# Altium footprint library InterfaceConn.PcbLib: 4 footprints
Each footprint in its own frame and in the unit in brackets; x right, y up, seen from the top. Pads: shape width x height; smd on the part's side, far side on the other; paste and mask are expansions set on the pad; w line width, h text height; cw(c..) or ccw(c..) is an arc to the next point about the centre after c.
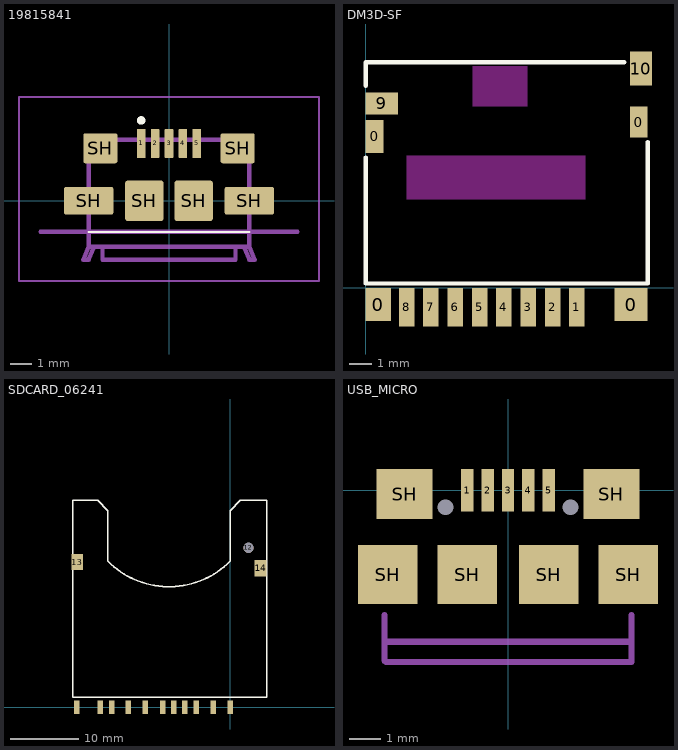
[diagram p0: the footprints below, top view; thin cyan lines are the x and y axes]

## 19815841 [mm] "microUSB TE Connectivity"
pads (11):
  rrect15% 0.4x1.35 smd: 1(-1.3,2.675) 2(-0.65,2.675) 3(0,2.675) 4(0.65,2.675) 5(1.3,2.675)
  rrect15% 2.3x1.3 smd: SH(-3.75,0) SH(3.75,0)
  rrect15% 1.6x1.4 smd: SH(-3.2,2.45) SH(3.2,2.45)
  rrect15% 1.8x1.9 smd: SH(-1.15,0) SH(1.15,0)
Top Overlay:
  lines w0.1: -3.75,-1.45 3.75,-1.45
  lines w0.2: -1.4,3.75 cw(c-1.3,3.75) -1.2,3.75 cw(c-1.3,3.75) -1.4,3.75
Mechanical 13:
  lines w0.2: -6,-1.45 6,-1.45 ; -3.5,-2.15 -3.75,-2.75 -4,-2.75 -3.75,-2.15 ; -3.1,-2.15 -3.1,-2.75 3.1,-2.75 3.1,-2.15 ; 3.5,-2.15 3.75,-2.75 4,-2.75 3.75,-2.15 ; -3.75,-2.15 -3.75,2.85 3.75,2.85 3.75,-2.15 ; -3.75,-2.15 3.75,-2.15
Mechanical 15:
  lines w0.1: -7,-3.75 -7,4.85 7,4.85 7,-3.75 -7,-3.75
3D body "1981584-1.stp": height 2.74, standoff -0.32, extent -4.4,-2.71 4.4,2.89

## DM3D-SF [mm] "microSD Card Connector"
pads (14):
  rect 0.8x1.5 smd: 0(0.4,6.85)
  rect 1.15x1.5 smd: 0(0.575,-0.75)
  rect 1.5x1.5 smd: 0(12,-0.75)
  rect 0.8x1.4 smd: 0(12.35,7.5)
  rect 0.7x1.75 smd: 1(9.55,-0.875) 2(8.45,-0.875) 3(7.35,-0.875) 4(6.25,-0.875) 5(5.15,-0.875) 6(4.05,-0.875) 7(2.95,-0.875) 8(1.85,-0.875)
  rect 1.45x1 smd: 9(0.725,8.35)
  rect 1x1.55 smd: 10(12.446,9.925)
Top Overlay:
  lines w0.2: 0,5.9 0,0.2 12.75,0.2 12.75,6.6 ; 0,9.144 0,10.2 11.7,10.2
Keep-Out Layer:
  rectangle: 4.826,8.2 7.326,10.05
  rectangle: 1.85,4 9.95,6
3D body: height 1.45, standoff 0, extent 0,0.254 12.827,10.16

## SDCARD_06241 [mm]
pads (14):
  rect 0.8x2 smd: 1(-2.5,0) 2(-5,0) 3(-8.3,0) 4(-9.9,0) 5(-12.5,0) 6(-15,0) 7(-17.43,0) 8(-19.13,0) 9(0,0) CD(-6.7,0) WP(-22.62,0)
  round 1.5 hole 1.5 unplated: 12(2.72,23.5)
  rect 1.7x2.4 smd: 13(-22.5,21.4)
  rect 1.8x2.4 smd: 14(4.5,20.5)
Top Overlay:
  lines w0.2: -18,21.5 -18,24.5 -18,29 -19.5,30.5 -23.18,30.5 -23.18,1.5 5.42,1.5 5.42,30.5 1.5,30.5 0,29 0,21.5
  lines w0.254: -18,21.5 ccw(c-9,30.5) 0,21.5
3D body "06241.STEP": height 2.85, standoff 0, extent -23.2,1.5 5.4,34.5

## USB_MICRO [mm]
pads (13):
  round 0.2 hole 0.5: 0(-2,-0.55) 0(2,-0.55)
  rect 0.4x1.35 smd: 1(-1.3,0) 2(-0.65,0) 3(0,0) 4(0.65,0) 5(1.3,0)
  rect 1.9x1.9 smd: SH(-3.85,-2.7) SH(-1.3,-2.7) SH(1.3,-2.7) SH(3.85,-2.7)
  rect 1.8x1.6 smd: SH(-3.31,-0.125) SH(3.31,-0.125)
Mechanical 3:
  lines w0.203: -3.95,-4 -3.95,-4.85 -3.95,-5.45 -3.9,-5.5 3.95,-5.5 3.95,-4.85 3.95,-4 ; -3.9,-4.85 3.9,-4.85
3D body "USBmicro.STEP": height 2.84, standoff -0.24, extent -4,-5.4 4,0.2